# Altium schematic symbol library DC_DC.SchLib: 1 symbol
Pins are listed as number, name and electrical type; pins without a type are passive.

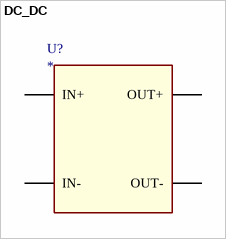
[diagram p0: symbol DC_DC]

## DC_DC
designator U?
footprint DC_DC
pins: 1 IN-, 2 IN+, 3 OUT-, 4 OUT+